# Altium footprint library do_222aa_295x190x95.PcbLib: 1 footprints
Each footprint in its own frame and in the unit in brackets; x right, y up, seen from the top. Pads: shape width x height; smd on the part's side, far side on the other; paste and mask are expansions set on the pad; w line width, h text height; cw(c..) or ccw(c..) is an arc to the next point about the centre after c.
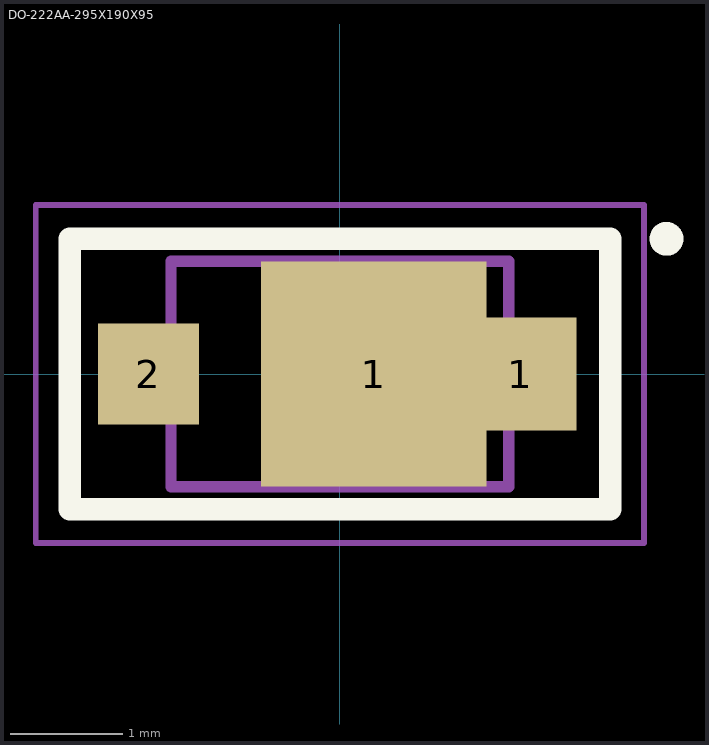
[diagram p0: the footprint, top view; thin cyan lines are the x and y axes]

## DO-222AA-295X190X95 [mm]
height 0.85
pads (3):
  rect 2x2 smd: 1(0.3,0)
  rect 1x1 smd: 1(1.6,0)
  rect 0.9x0.9 smd: 2(-1.7,0)
Top Overlay:
  circle w0.2: c2.9,1.2 r0.05
  lines w0.2: -2.4,-1.2 -2.4,1.2 -0.1,1.2 2.4,1.2 2.4,-1.2 -2.4,-1.2
Top Comment:
  text ".Comment" at 1,2 h1.2
Top Designator:
  text ".Designator" at -0.5,2 h1.2
Top Component Outline:
  lines w0.1: -1.5,-1 -1.5,1 1.5,1 1.5,-1 -1.5,-1
Top Courtyard (Mech15):
  lines w0.05: -2.7,-1.5 2.7,-1.5 2.7,1.5 0,1.5 -2.7,1.5 -2.7,-1.5
  lines w0.1: -0.5,0 0.5,0 ; 0,-0.5 0,0.5
3D body "DO216-AA.STEP": height 0.85, standoff 0, extent -1.9,-0.954 1.9,0.955